# EAGLE library part PIC18F2XK20 (library jasons_stuff)
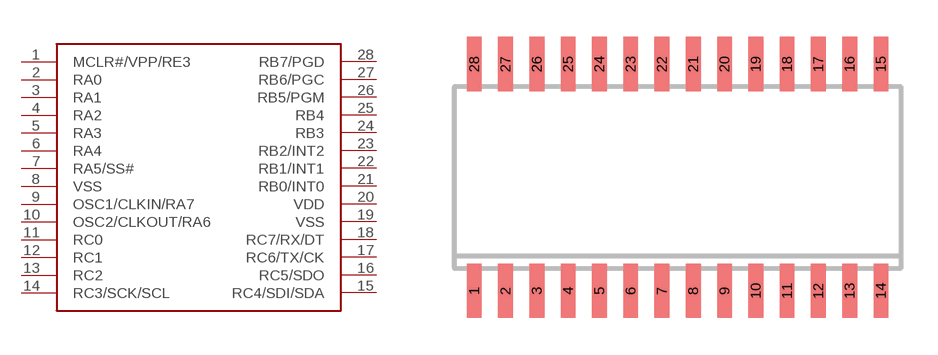
[diagram p32: symbol with the pads of SO28W; footprint SO28W]

Designator prefix -

## PIC18F2XK20  [SO28W]
1  MCLR#/VPP/RE3  in
2  RA0
3  RA1
4  RA2
5  RA3
6  RA4
7  RA5/SS#
8  VSS  pwr
9  OSC1/CLKIN/RA7
10  OSC2/CLKOUT/RA6
11  RC0
12  RC1
13  RC2
14  RC3/SCK/SCL
15  RC4/SDI/SDA
16  RC5/SDO
17  RC6/TX/CK
18  RC7/RX/DT
19  VSS  pwr
20  VDD  pwr
21  RB0/INT0
22  RB1/INT1
23  RB2/INT2
24  RB3
25  RB4
26  RB5/PGM
27  RB6/PGC
28  RB7/PGD

## Footprint SO28W (pad centres in mm)
SMALL OUTLINE INTEGRATED CIRCUIT wide body 7.5 mm/JEDEC MO-119AB
smd 0.6 x 2.2: 1 -8.255,-4.6; 2 -6.985,-4.6; 3 -5.715,-4.6; 4 -4.445,-4.6; 5 -3.175,-4.6; 6 -1.905,-4.6; 7 -0.635,-4.6; 8 0.635,-4.6; 9 1.905,-4.6; 10 3.175,-4.6; 11 4.445,-4.6; 12 5.715,-4.6; 13 6.985,-4.6; 14 8.255,-4.6; 15 8.255,4.6; 16 6.985,4.6; 17 5.715,4.6; 18 4.445,4.6; 19 3.175,4.6; 20 1.905,4.6; 21 0.635,4.6; 22 -0.635,4.6; 23 -1.905,4.6; 24 -3.175,4.6; 25 -4.445,4.6; 26 -5.715,4.6; 27 -6.985,4.6; 28 -8.255,4.6